# Altium integrated library RF Inductors-BAL_rev15a.intlib: 7 symbols
Pins are listed as number, name and electrical type; pins without a type are passive.

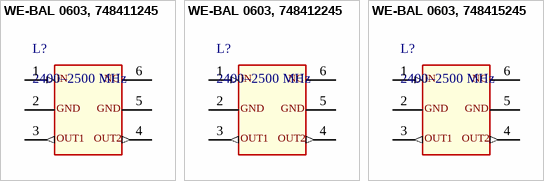
[diagram p0: symbols WE-BAL 0603, 748411245 to WE-BAL 0603, 748415245]

## WE-BAL 0603, 748411245
designator L?, comment 2400–2500 MHz
WE-BAL Multilayer Chip Balun, Frequence=2400–2500 MHz; partNo: 748411245; Manufacturer: Wurth Elektronik; Frequence: 2400–2500 MHz; ComponentLink1Description: Manufacturer; ComponentLink1URL: http://www.we-online.de; Created by: Baojun Chen; Created Date: Nov.2015; ComponentLink2Description: Datasheet; ComponentLink2URL: http://katalog.we-online.de/pbs/datasheet/748411245.pdf
footprint WE-BAL_0603
pins: 1 IN (in), 2 GND, 3 OUT1 (out), 4 OUT2 (out), 5 GND, 6 NC

## WE-BAL 0603, 748412245
designator L?, comment 2400–2500 MHz
WE-BAL Multilayer Chip Balun, Frequence=2400–2500 MHz; partNo: 748412245; Manufacturer: Wurth Elektronik; Frequence: 2400–2500 MHz; ComponentLink1Description: Manufacturer; ComponentLink1URL: http://www.we-online.de; Created by: Baojun Chen; Created Date: Nov.2015; ComponentLink2Description: Datasheet; ComponentLink2URL: http://katalog.we-online.de/pbs/datasheet/748412245.pdf
footprint WE-BAL_0603
pins: 1 IN (in), 2 GND, 3 OUT1 (out), 4 OUT2 (out), 5 GND, 6 NC

## WE-BAL 0603, 748415245
designator L?, comment 2400–2500 MHz
WE-BAL Multilayer Chip Balun, Frequence=2400–2500 MHz; partNo: 748415245; Manufacturer: Wurth Elektronik; Frequence: 2400–2500 MHz; ComponentLink1Description: Manufacturer; ComponentLink1URL: http://www.we-online.de; Created by: Baojun Chen; Created Date: Nov.2015; ComponentLink2Description: Datasheet; ComponentLink2URL: http://katalog.we-online.de/pbs/datasheet/748415245.pdf
footprint WE-BAL_0603
pins: 1 IN (in), 2 GND, 3 OUT1 (out), 4 OUT2 (out), 5 GND, 6 NC


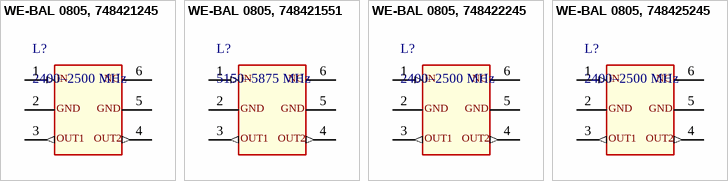
[diagram p1: symbols WE-BAL 0805, 748421245 to WE-BAL 0805, 748425245]

## WE-BAL 0805, 748421245
designator L?, comment 2400–2500 MHz
WE-BAL Multilayer Chip Balun, Frequence=2400–2500 MHz; partNo: 748421245; Manufacturer: Wurth Elektronik; Frequence: 2400–2500 MHz; ComponentLink1Description: Manufacturer; ComponentLink1URL: http://www.we-online.de; Created by: Baojun Chen; Created Date: Nov.2015; ComponentLink2Description: Datasheet; ComponentLink2URL: http://katalog.we-online.de/pbs/datasheet/748421245.pdf
footprint WE-BAL_0805
pins: 1 IN (in), 2 GND, 3 OUT1 (out), 4 OUT2 (out), 5 GND, 6 NC

## WE-BAL 0805, 748421551
designator L?, comment 5150–5875 MHz
WE-BAL Multilayer Chip Balun, Frequence=5150–5875 MHz; partNo: 748421551; Manufacturer: Wurth Elektronik; Frequence: 5150–5875 MHz; ComponentLink1Description: Manufacturer; ComponentLink1URL: http://www.we-online.de; Created by: Baojun Chen; Created Date: Nov.2015; ComponentLink2Description: Datasheet; ComponentLink2URL: http://katalog.we-online.de/pbs/datasheet/748421551.pdf
footprint WE-BAL_0805
pins: 1 IN (in), 2 GND, 3 OUT1 (out), 4 OUT2 (out), 5 GND, 6 NC

## WE-BAL 0805, 748422245
designator L?, comment 2400–2500 MHz
WE-BAL Multilayer Chip Balun, Frequence=2400–2500 MHz; partNo: 748422245; Manufacturer: Wurth Elektronik; Frequence: 2400–2500 MHz; ComponentLink1Description: Manufacturer; ComponentLink1URL: http://www.we-online.de; Created by: Baojun Chen; Created Date: Nov.2015; ComponentLink2Description: Datasheet; ComponentLink2URL: http://katalog.we-online.de/pbs/datasheet/748422245.pdf
footprint WE-BAL_0805
pins: 1 IN (in), 2 GND, 3 OUT1 (out), 4 OUT2 (out), 5 GND, 6 NC

## WE-BAL 0805, 748425245
designator L?, comment 2400–2500 MHz
WE-BAL Multilayer Chip Balun, Frequence=2400–2500 MHz; partNo: 748425245; Manufacturer: Wurth Elektronik; Frequence: 2400–2500 MHz; ComponentLink1Description: Manufacturer; ComponentLink1URL: http://www.we-online.de; Created by: Baojun Chen; Created Date: Nov.2015; ComponentLink2Description: Datasheet; ComponentLink2URL: http://katalog.we-online.de/pbs/datasheet/748425245.pdf
footprint WE-BAL_0805
pins: 1 IN (in), 2 GND, 3 OUT1 (out), 4 OUT2 (out), 5 GND, 6 NC